# Altium footprint library IPCP254M20PB28S.PcbLib: 1 footprints
Each footprint in its own frame and in the unit in brackets; x right, y up, seen from the top. Pads: shape width x height; smd on the part's side, far side on the other; paste and mask are expansions set on the pad; w line width, h text height; cw(c..) or ccw(c..) is an arc to the next point about the centre after c.
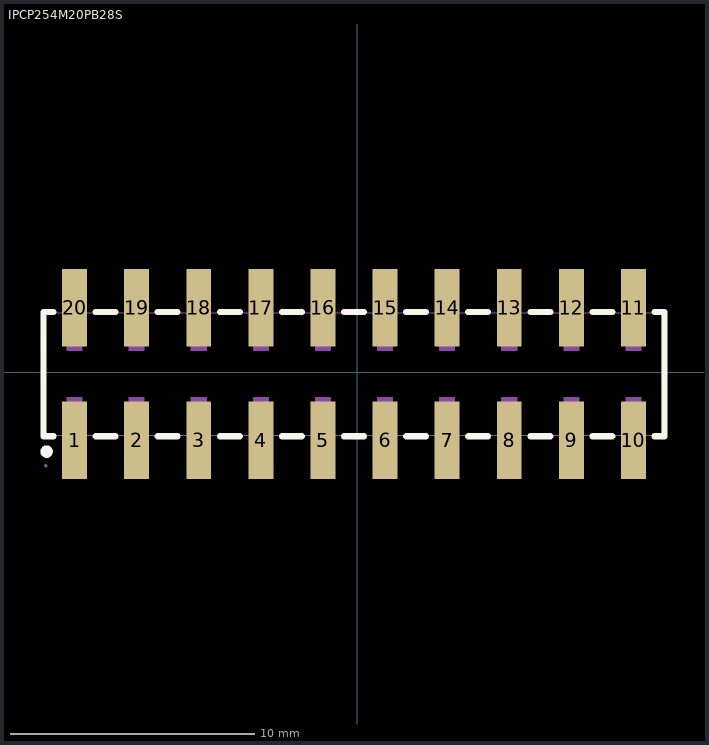
[diagram p0: the footprint, top view; thin cyan lines are the x and y axes]

## IPCP254M20PB28S [mm]
pads (20):
  rect 1.02x3.17 smd paste+0 mask+0.05: 1(-11.557,-2.794) 2(-9.017,-2.794) 3(-6.477,-2.794) 4(-3.937,-2.794) 5(-1.397,-2.794) 6(1.143,-2.794) 7(3.683,-2.794) 8(6.223,-2.794) 9(8.763,-2.794) 10(11.303,-2.794) 11(11.303,2.636) 12(8.763,2.636) 13(6.223,2.636) 14(3.683,2.636) 15(1.143,2.636) 16(-1.397,2.636) 17(-3.937,2.636) 18(-6.477,2.636) 19(-9.017,2.636) 20(-11.557,2.636)
Top Overlay:
  circle w0.254: c-12.7,-3.254 r0.127
  lines w0.254: -12.827,2.455 -12.827,-2.625 -12.423,-2.625 ; -12.813,2.455 -12.423,2.455 ; -10.691,-2.625 -9.883,-2.625 ; -10.691,2.455 -9.883,2.455 ; -8.151,-2.625 -7.343,-2.625 ; -8.151,2.455 -7.343,2.455 ; -5.611,-2.625 -4.803,-2.625 ; -5.611,2.455 -4.803,2.455 ; -3.071,-2.625 -2.263,-2.625 ; -3.071,2.455 -2.263,2.455 ; -0.531,-2.625 0.277,-2.625 ; -0.531,2.455 0.277,2.455 ; 2.009,-2.625 2.817,-2.625 ; 2.009,2.455 2.817,2.455 ; 4.549,-2.625 5.357,-2.625 ; 4.549,2.455 5.357,2.455 ; 7.089,-2.625 7.897,-2.625 ; 7.089,2.455 7.897,2.455 ; 9.629,-2.625 10.437,-2.625 ; 9.629,2.455 10.437,2.455 ; 12.169,-2.625 12.573,-2.625 12.573,2.455 12.169,2.455
Mechanical 15:
  region: 10.983,3.671 11.623,3.671 11.623,0.871 10.983,0.871
  region: 10.983,-1.029 11.623,-1.029 11.623,-3.829 10.983,-3.829
  region: 8.443,3.671 9.083,3.671 9.083,0.871 8.443,0.871
  region: 8.443,-1.029 9.083,-1.029 9.083,-3.829 8.443,-3.829
  region: 5.903,3.671 6.543,3.671 6.543,0.871 5.903,0.871
  region: 5.903,-1.029 6.543,-1.029 6.543,-3.829 5.903,-3.829
  region: 3.363,3.671 4.003,3.671 4.003,0.871 3.363,0.871
  region: 3.363,-1.029 4.003,-1.029 4.003,-3.829 3.363,-3.829
  region: 0.823,3.671 1.463,3.671 1.463,0.871 0.823,0.871
  region: 0.823,-1.029 1.463,-1.029 1.463,-3.829 0.823,-3.829
  region: -1.717,3.671 -1.077,3.671 -1.077,0.871 -1.717,0.871
  region: -1.717,-1.029 -1.077,-1.029 -1.077,-3.829 -1.717,-3.829
  region: -4.257,3.671 -3.617,3.671 -3.617,0.871 -4.257,0.871
  region: -4.257,-1.029 -3.617,-1.029 -3.617,-3.829 -4.257,-3.829
  region: -6.797,3.671 -6.157,3.671 -6.157,0.871 -6.797,0.871
  region: -6.797,-1.029 -6.157,-1.029 -6.157,-3.829 -6.797,-3.829
  region: -9.337,3.671 -8.697,3.671 -8.697,0.871 -9.337,0.871
  region: -9.337,-1.029 -8.697,-1.029 -8.697,-3.829 -9.337,-3.829
  region: -11.877,-1.029 -11.237,-1.029 -11.237,-3.829 -11.877,-3.829
  region: -11.877,3.671 -11.237,3.671 -11.237,0.871 -11.877,0.871
  region: -12.667,-3.829 -12.667,-3.854 -12.702,-3.889 -12.752,-3.889 -12.787,-3.854 -12.787,-3.829 -12.787,-3.804 -12.752,-3.769 -12.702,-3.769 -12.667,-3.804 -12.667,-3.829
  lines w0.051: -12.727,-2.579 12.473,-2.579 12.473,2.421 -12.727,2.421 -12.727,-2.579